# EAGLE library part PIC18F26K22-I/SP (library PIC18F26K22)
MCU, 8BIT, 64K FLASH, XLP, SPDIP-28
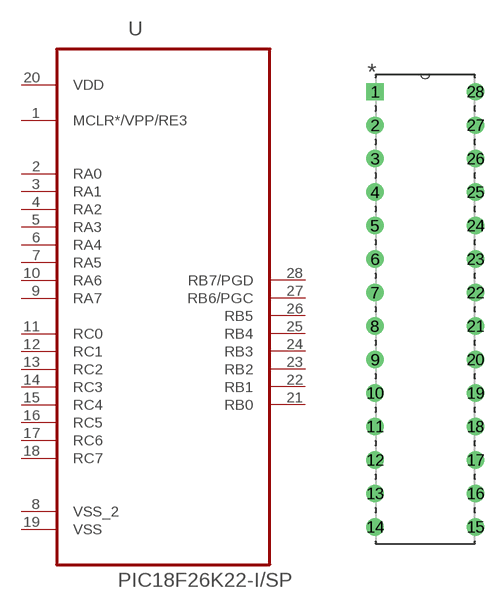
[diagram p0: symbol with the pads of DIP254P762X508-28P; footprint DIP254P762X508-28P]

Designator prefix U

## PIC18F26K22-I/SP (MPN: PIC18F26K22-I/SP; OC_FARNELL: 1814975; OC_NEWARK: 65T6686; PACKAGE: SPDIP-28; SUPPLIER: MICROCHIP)  [DIP254P762X508-28P]
1  MCLR*/VPP/RE3  in
2  RA0
3  RA1
4  RA2
5  RA3
6  RA4
7  RA5
8  VSS_2  pwr
9  RA7
10  RA6
11  RC0
12  RC1
13  RC2
14  RC3
15  RC4
16  RC5
17  RC6
18  RC7
19  VSS  pwr
20  VDD  pwr
21  RB0
22  RB1
23  RB2
24  RB3
25  RB4
26  RB5
27  RB6/PGC
28  RB7/PGD

## Footprint DIP254P762X508-28P (pad centres in mm)
drill 0.813 square: 1 -7.62,33.02
drill 0.813: 2 -7.62,30.48; 3 -7.62,27.94; 4 -7.62,25.4; 5 -7.62,22.86; 6 -7.62,20.32; 7 -7.62,17.78; 8 -7.62,15.24; 9 -7.62,12.7; 10 -7.62,10.16; 11 -7.62,7.62; 12 -7.62,5.08; 13 -7.62,2.54; 14 -7.62,0; 15 0,0; 16 0,2.54; 17 0,5.08; 18 0,7.62; 19 0,10.16; 20 0,12.7; 21 0,15.24; 22 0,17.78; 23 0,20.32; 24 0,22.86; 25 0,25.4; 26 0,27.94; 27 0,30.48; 28 0,33.02